# Altium footprint library CSD86350Q5D.PcbLib: 1 footprints
Each footprint in its own frame and in the unit in brackets; x right, y up, seen from the top. Pads: shape width x height; smd on the part's side, far side on the other; paste and mask are expansions set on the pad; w line width, h text height; cw(c..) or ccw(c..) is an arc to the next point about the centre after c.
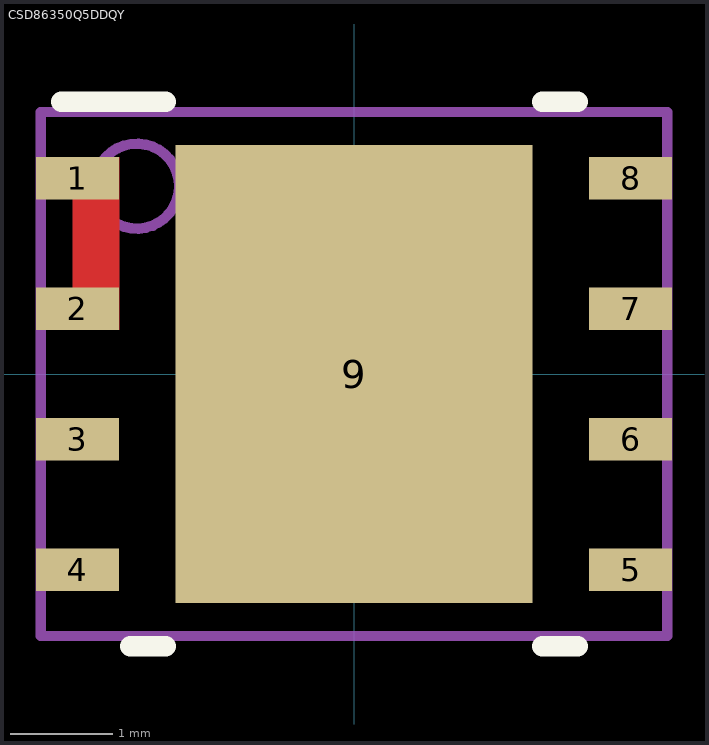
[diagram p0: the footprint, top view; thin cyan lines are the x and y axes]

## CSD86350Q5DDQY [mm]
pads (9):
  rect 0.81x0.41 smd paste+0 mask+0.051: 1(-2.692,1.905) 2(-2.692,0.635) 3(-2.692,-0.635) 4(-2.692,-1.905) 5(2.692,-1.905) 6(2.692,-0.635) 8(2.692,1.905)
  rect 0.81x0.41 smd paste+0 mask+0.102: 7(2.692,0.635)
  rect 3.48x4.46 smd paste-2.217 mask+0.051: 9(0,0)
Top Layer:
  region: -2.737,2.11 -2.737,0.43 -2.287,0.43 -2.287,2.11
Top Overlay:
  lines w0.2: -2.85,2.65 -1.831,2.65 ; -2.176,-2.65 -1.831,-2.65 ; 1.831,-2.65 2.176,-2.65 ; 1.831,2.65 2.176,2.65
Top Paste:
  region: 0.1,1.966 0.1,0.1 1.6,0.1 1.6,1.966
  region: -0.1,0.1 -0.1,1.966 -1.6,1.966 -1.6,0.1
  region: -0.1,-1.966 -0.1,-0.1 -1.6,-0.1 -1.6,-1.966
  region: 0.1,-0.1 0.1,-1.966 1.6,-1.966 1.6,-0.1
  region: -2.737,2.11 -2.737,0.43 -2.287,0.43 -2.287,2.11
Top Solder:
  region: -2.788,2.161 -2.788,0.379 -2.237,0.379 -2.237,2.161
Mechanical 13:
  circle w0.102: c-2.115,1.829 r0.413
  lines w0.1: -3.05,-2.55 -3.05,2.55 3.05,2.55 3.05,-2.55 -3.05,-2.55